# Altium footprint library DIP-8, Gull Wing.PcbLib: 1 footprints
Each footprint in its own frame and in the unit in brackets; x right, y up, seen from the top. Pads: shape width x height; smd on the part's side, far side on the other; paste and mask are expansions set on the pad; w line width, h text height; cw(c..) or ccw(c..) is an arc to the next point about the centre after c.
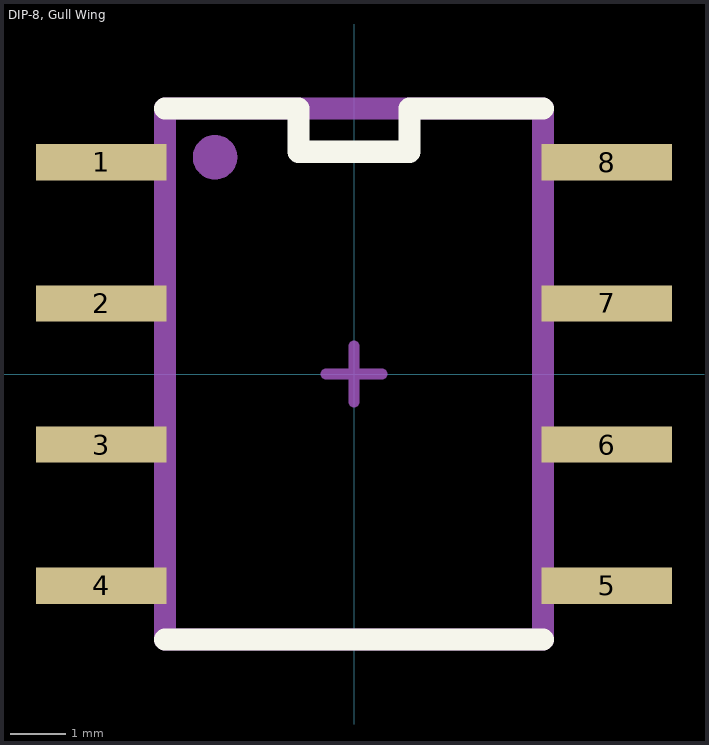
[diagram p0: the footprint, top view; thin cyan lines are the x and y axes]

## DIP-8, Gull Wing [mm] "DIP-8, Gull Wing"
height 4.85
pads (8):
  rect 2.35x0.65 smd mask+0.05: 1(-4.55,3.81) 2(-4.55,1.27) 3(-4.55,-1.27) 4(-4.55,-3.81) 5(4.55,-3.81) 6(4.55,-1.27) 7(4.55,1.27) 8(4.55,3.81)
Top Overlay:
  lines w0.4: -3.4,-4.775 3.4,-4.775 ; -3.4,4.775 -1,4.775 -1,4 1,4 1,4.775 3.4,4.775
Top Assembly:
  circle w0.4: c-2.5,3.9 r0.2
  lines w0.4: -3.4,-4.775 3.4,-4.775 3.4,4.775 -3.4,4.775 -3.4,-4.775
Top Designator:
  text ".Designator" at -3,-2.718 h1.5
Top Component Center:
  lines w0.2: -0.5,0 0.5,0 ; 0,-0.5 0,0.5
3D body "DIP-8, Gull Wing.step": height 4.35, standoff 0.02, extent -4.95,-4.95 4.95,4.95